# Altium footprint library CPAV.PcbLib: 150 footprints (part 9 of 10)
Each footprint in its own frame and in the unit in brackets; x right, y up, seen from the top. Pads: shape width x height; smd on the part's side, far side on the other; paste and mask are expansions set on the pad; w line width, h text height; cw(c..) or ccw(c..) is an arc to the next point about the centre after c.
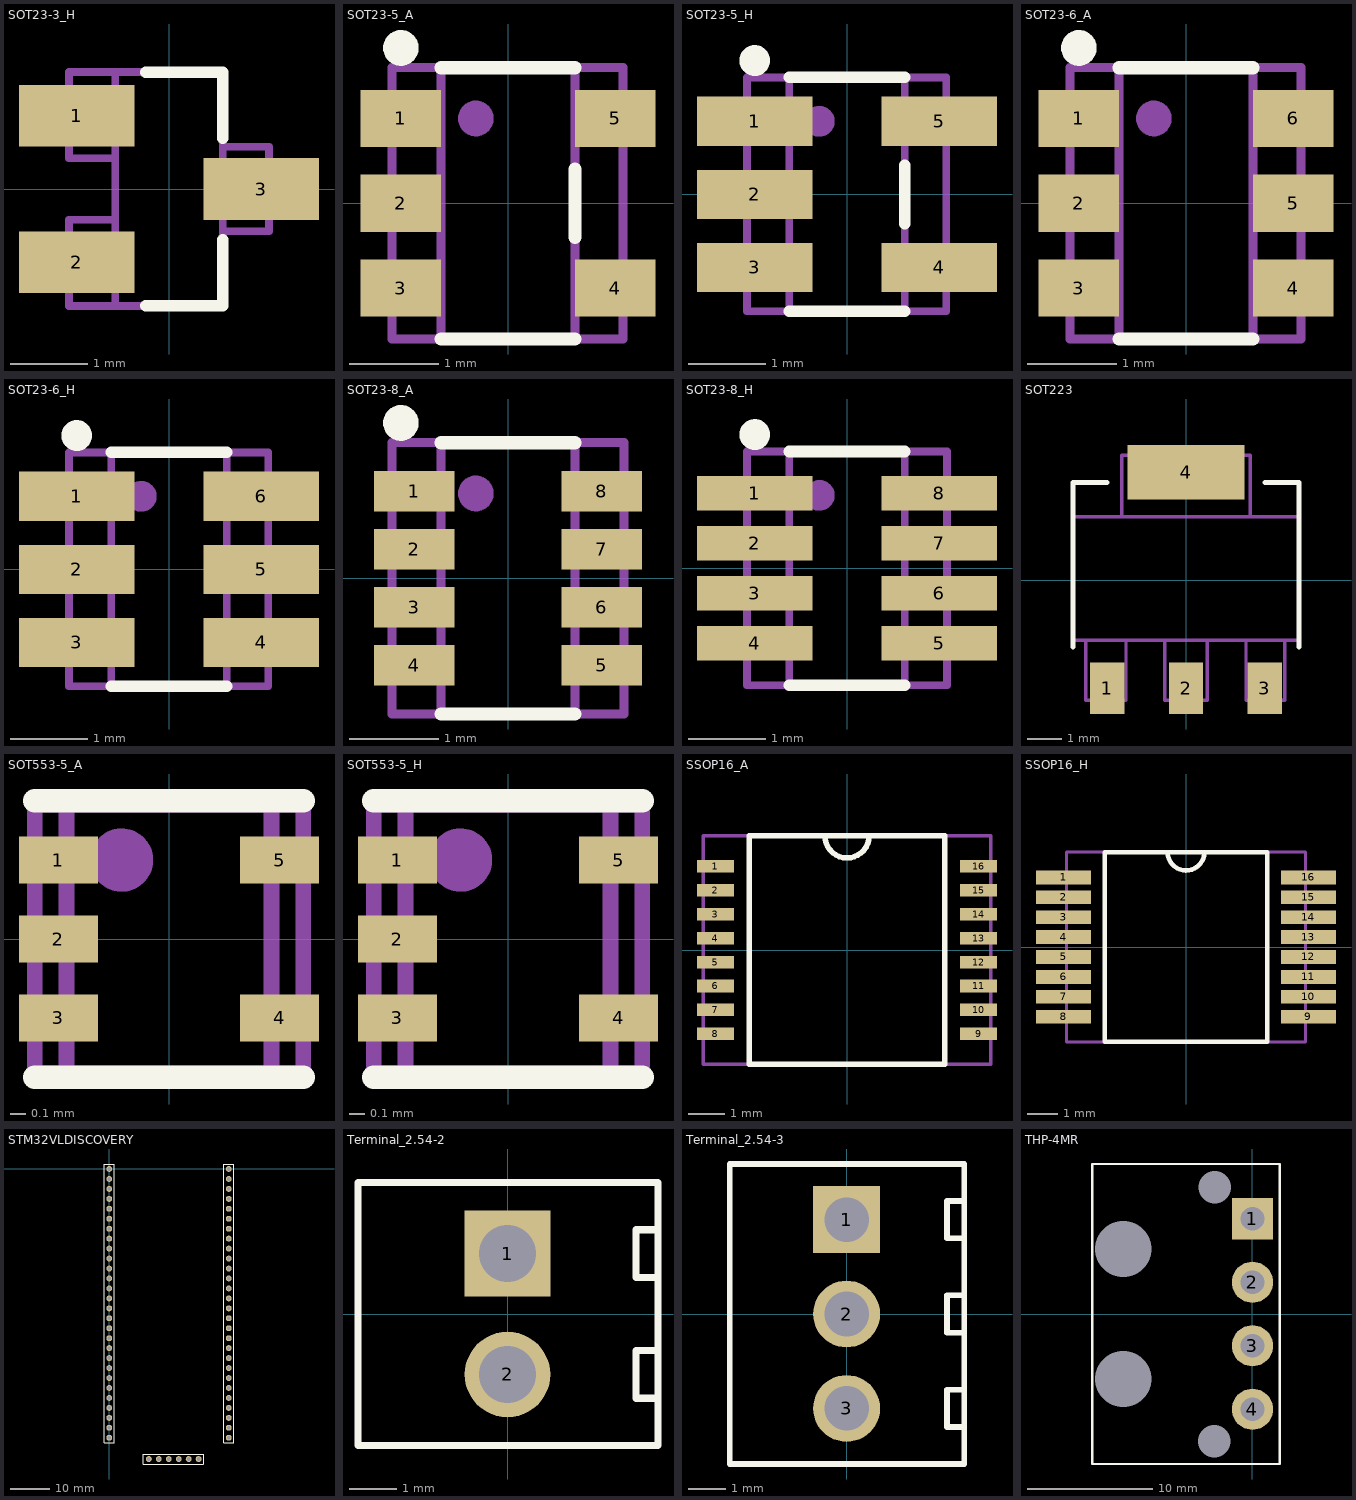
[diagram p8: the footprints below, top view; thin cyan lines are the x and y axes]

## SOT23-3_H [mm]
height 1.12
pads (3):
  rect 1.5x0.8 smd: 1(-1.2,0.95) 2(-1.2,-0.95) 3(1.2,0)
Top Overlay:
  lines w0.15: -0.3,-1.52 0.7,-1.52 0.7,-0.66 ; -0.3,1.52 0.7,1.52 0.7,0.66
Mechanical 7:
  lines w0.1: -0.7,-1.52 -0.7,1.52 ; -0.7,-0.4 -1.3,-0.4 -1.3,-1.52 0.7,-1.52 0.7,1.52 -1.3,1.52 -1.3,0.4 -0.7,0.4 ; 0.7,-0.55 1.3,-0.55 1.3,0.55 0.7,0.55
Mechanical 10:
  text ".Comment" at -0.74,-2.17 h0.6
  text ".Designator" at -0.71,1.79 h0.8
3D body: height 0.5, standoff 0, extent 0.7,-0.55 1.3,0.55
3D body: height 0.5, standoff 0, extent -1.3,-1.52 -0.7,-0.4
3D body: height 0.5, standoff 0, extent -1.3,0.4 -0.7,1.52
3D body: height 1.12, standoff 0, extent -0.7,-1.52 0.7,1.52

## SOT23-5_A [mm]
height 1.12
pads (5):
  rect 0.9x0.64 smd: 1(-1.2,0.95) 2(-1.2,0) 3(-1.2,-0.95) 4(1.2,-0.95) 5(1.2,0.95)
Top Overlay:
  circle w0.2: c-1.2,1.74 r0.1
  lines w0.15: -0.75,-1.52 0.75,-1.52 ; -0.75,1.52 0.75,1.52 ; 0.75,-0.38 0.75,0.38
Mechanical 7:
  circle w0.2: c-0.36,0.95 r0.1
  lines w0.1: -0.75,-1.52 -0.75,1.52 ; 0.75,-1.52 0.75,1.52 ; -1.3,-1.52 -1.3,1.52 1.29,1.52 1.29,-1.52 -1.3,-1.52
Mechanical 10:
  text ".Designator" at -0.73,1.79 h0.8
  text ".Comment" at -0.79,-2.09 h0.6
3D body: height 0.5, standoff 0, extent -1.3,-1.52 -0.75,1.52
3D body: height 0.5, standoff 0, extent 0.75,-1.52 1.29,1.52
3D body: height 1.12, standoff 0, extent -0.75,-1.52 0.75,1.52

## SOT23-5_H [mm]
height 1.12
pads (5):
  rect 1.5x0.64 smd: 1(-1.2,0.95) 2(-1.2,0) 3(-1.2,-0.95) 4(1.2,-0.95) 5(1.2,0.95)
Top Overlay:
  circle w0.2: c-1.2,1.74 r0.1
  lines w0.15: -0.75,-1.52 0.75,-1.52 ; -0.75,1.52 0.75,1.52 ; 0.75,-0.38 0.75,0.38
Mechanical 7:
  circle w0.2: c-0.36,0.95 r0.1
  lines w0.1: -0.75,-1.52 -0.75,1.52 ; 0.75,-1.52 0.75,1.52 ; -1.3,-1.52 1.29,-1.52 1.29,1.52 -1.3,1.52 -1.3,-1.52
Mechanical 10:
  text ".Designator" at -0.73,1.79 h0.8
  text ".Comment" at -0.95,-2.13 h0.6
3D body: height 1.12, standoff 0, extent -0.75,-1.52 0.75,1.52
3D body: height 0.5, standoff 0, extent 0.75,-1.52 1.29,1.52
3D body: height 0.5, standoff 0, extent -1.3,-1.52 -0.75,1.52

## SOT23-6_A [mm]
height 1.12
pads (6):
  rect 0.9x0.64 smd: 1(-1.2,0.95) 2(-1.2,0) 3(-1.2,-0.95) 4(1.2,-0.95) 5(1.2,0) 6(1.2,0.95)
Top Overlay:
  circle w0.2: c-1.2,1.74 r0.1
  lines w0.15: -0.75,-1.52 0.75,-1.52 ; -0.75,1.52 0.75,1.52
Mechanical 7:
  circle w0.2: c-0.36,0.95 r0.1
  lines w0.1: -0.75,-1.52 -0.75,1.52 ; 0.75,-1.52 0.75,1.52 ; -1.3,-1.52 -1.3,1.52 1.29,1.52 1.29,-1.52 -1.3,-1.52
Mechanical 10:
  text ".Comment" at -0.93,-2.11 h0.6
  text ".Designator" at -0.73,1.79 h0.8
3D body: height 0.5, standoff 0, extent -1.3,-1.52 -0.75,1.52
3D body: height 0.5, standoff 0, extent 0.75,-1.52 1.29,1.52
3D body: height 1.12, standoff 0, extent -0.75,-1.52 0.75,1.52

## SOT23-6_H [mm]
height 1.12
pads (6):
  rect 1.5x0.64 smd: 1(-1.2,0.95) 2(-1.2,0) 3(-1.2,-0.95) 4(1.2,-0.95) 5(1.2,0) 6(1.2,0.95)
Top Overlay:
  circle w0.2: c-1.2,1.74 r0.1
  lines w0.15: -0.75,-1.52 0.75,-1.52 ; -0.75,1.52 0.75,1.52
Mechanical 7:
  circle w0.2: c-0.36,0.95 r0.1
  lines w0.1: -0.75,-1.52 -0.75,1.52 ; 0.75,-1.52 0.75,1.52 ; -1.3,-1.52 -1.3,1.52 1.29,1.52 1.29,-1.52 -1.3,-1.52
Mechanical 10:
  text ".Designator" at -0.73,1.79 h0.8
  text ".Comment" at -0.84,-2.08 h0.6
3D body: height 0.5, standoff 0, extent -1.3,-1.52 -0.75,1.52
3D body: height 0.5, standoff 0, extent 0.75,-1.52 1.29,1.52
3D body: height 1.12, standoff 0, extent -0.75,-1.52 0.75,1.52

## SOT23-8_A [mm]
height 1.45
pads (8):
  rect 0.9x0.45 smd: 1(-1.05,0.975) 2(-1.05,0.325) 3(-1.05,-0.325) 4(-1.05,-0.975) 5(1.05,-0.975) 6(1.05,-0.325) 7(1.05,0.325) 8(1.05,0.975)
Top Overlay:
  circle w0.2: c-1.2,1.74 r0.1
  lines w0.15: -0.75,-1.52 0.75,-1.52 ; -0.75,1.52 0.75,1.52
Mechanical 7:
  circle w0.2: c-0.36,0.95 r0.1
  lines w0.1: -0.75,-1.52 -0.75,1.52 ; 0.75,-1.52 0.75,1.52 ; -1.3,-1.52 -1.3,1.52 1.3,1.52 1.3,-1.52 -1.3,-1.52
Mechanical 10:
  text ".Comment" at -0.83,-2.11 h0.6
  text ".Designator" at -0.74,1.81 h0.8
3D body: height 1.45, standoff 0, extent -0.75,-1.52 0.75,1.52
3D body: height 0.5, standoff 0, extent 0.75,-1.52 1.29,1.52
3D body: height 0.5, standoff 0, extent -1.3,-1.52 -0.75,1.52

## SOT23-8_H [mm]
height 1.45
pads (8):
  rect 1.5x0.45 smd: 1(-1.2,0.975) 2(-1.2,0.325) 3(-1.2,-0.325) 4(-1.2,-0.975) 5(1.2,-0.975) 6(1.2,-0.325) 7(1.2,0.325) 8(1.2,0.975)
Top Overlay:
  circle w0.2: c-1.2,1.74 r0.1
  lines w0.15: -0.75,-1.52 0.75,-1.52 ; -0.75,1.52 0.75,1.52
Mechanical 7:
  circle w0.2: c-0.36,0.95 r0.1
  lines w0.1: -0.75,-1.52 -0.75,1.52 ; 0.75,-1.52 0.75,1.52 ; -1.3,-1.52 1.3,-1.52 1.3,1.52 -1.3,1.52 -1.3,-1.52
Mechanical 10:
  text ".Comment" at -0.84,-2.2 h0.6
  text ".Designator" at -0.74,1.81 h0.8
3D body: height 0.5, standoff 0, extent -1.3,-1.52 -0.75,1.52
3D body: height 0.5, standoff 0, extent 0.75,-1.52 1.29,1.52
3D body: height 1.45, standoff 0, extent -0.75,-1.52 0.75,1.52

## SOT223 [mm]
pads (4):
  rect 1x1.5 smd: 1(-2.3,-3.15) 2(0,-3.15) 3(2.3,-3.15)
  rect 3.4x1.6 smd: 4(0,3.15)
Top Overlay:
  lines w0.15: -3.3,-1.95 -3.3,2.85 -2.3,2.85 ; 2.3,2.85 3.3,2.85 3.3,-1.95
Mechanical 7:
  lines w0.1: -2.9,-1.75 -2.925,-1.775 -2.925,-3.5 -1.75,-3.5 -1.75,-1.75 ; -1.875,1.875 -1.875,3.65 1.875,3.65 1.875,1.85 ; -0.625,-1.75 -0.625,-3.5 0.625,-3.5 0.625,-1.75 ; 1.75,-1.75 1.75,-3.5 2.875,-3.5 2.875,-1.75 ; -3.3,-1.75 3.3,-1.75 3.3,1.85 -3.3,1.85 -3.3,-1.75
3D body: height 1.7, standoff 0, extent -3.3,-1.75 3.3,1.85
3D body: height 0.5, standoff 0.1, extent -1.875,1.825 1.875,3.65
3D body: height 0.5, standoff 0.1, extent -2.95,-3.5 -1.75,-1.75
3D body: height 0.5, standoff 0.1, extent -0.625,-3.5 0.625,-1.75
3D body: height 0.5, standoff 0.1, extent 1.75,-3.5 2.875,-1.75

## SOT553-5_A [mm]
height 0.6
pads (5):
  rect 0.5x0.3 smd: 1(-0.7,0.5) 2(-0.7,0) 3(-0.7,-0.5) 4(0.7,-0.5) 5(0.7,0.5)
Top Overlay:
  lines w0.15: -0.85,-0.875 0.85,-0.875 ; -0.85,0.875 0.85,0.875
Mechanical 7:
  circle w0.2: c-0.3,0.5 r0.1
  lines w0.1: -0.65,-0.85 -0.65,0.85 ; 0.65,-0.85 0.65,0.85 ; -0.85,-0.85 -0.85,0.85 0.85,0.85 0.85,-0.85 -0.85,-0.85
Mechanical 10:
  text ".Comment" at -0.825,-1.45 h0.6
  text ".Designator" at -0.725,1.175 h0.8
3D body: height 0.2, standoff 0, extent -0.85,-0.85 -0.65,0.85
3D body: height 0.2, standoff 0, extent 0.65,-0.85 0.85,0.85
3D body: height 0.6, standoff 0, extent -0.65,-0.85 0.65,0.85

## SOT553-5_H [mm]
height 0.6
pads (5):
  rect 0.5x0.3 smd: 1(-0.7,0.5) 2(-0.7,0) 3(-0.7,-0.5) 4(0.7,-0.5) 5(0.7,0.5)
Top Overlay:
  lines w0.15: -0.85,-0.875 0.85,-0.875 ; -0.85,0.875 0.85,0.875
Mechanical 7:
  circle w0.2: c-0.3,0.5 r0.1
  lines w0.1: -0.65,-0.85 -0.65,0.85 ; 0.65,-0.85 0.65,0.85 ; -0.85,-0.85 -0.85,0.85 0.85,0.85 0.85,-0.85 -0.85,-0.85
Mechanical 10:
  text ".Designator" at -0.725,1.175 h0.8
  text ".Comment" at -0.825,-1.45 h0.6
3D body: height 0.6, standoff 0, extent -0.65,-0.85 0.65,0.85
3D body: height 0.2, standoff 0, extent 0.65,-0.85 0.85,0.85
3D body: height 0.2, standoff 0, extent -0.85,-0.85 -0.65,0.85

## SSOP16_A [mm]
height 1.99
pads (16):
  rect 1x0.34 smd: 1(-3.57,2.275) 2(-3.57,1.625) 3(-3.57,0.975) 4(-3.57,0.325) 5(-3.57,-0.325) 6(-3.57,-0.975) 7(-3.57,-1.625) 8(-3.57,-2.275) 9(3.57,-2.275) 10(3.57,-1.625) 11(3.57,-0.975) 12(3.57,-0.325) 13(3.57,0.325) 14(3.57,0.975) 15(3.57,1.625) 16(3.57,2.275)
Top Overlay:
  lines w0.15: -0.6,3.1 ccw(c0,3.1) 0.6,3.09 ; -2.65,-3.1 -2.65,3.1 2.65,3.1 2.65,-3.1 -2.65,-3.1
Mechanical 7:
  lines w0.1: -2.65,-3.1 -2.65,3.1 ; -0.6,3.1 ccw(c0,3.1) 0.6,3.09 ; 2.65,-3.1 2.65,3.1 ; -3.9,-3.1 3.9,-3.1 3.9,3.1 -3.9,3.1 -3.9,-3.1
Mechanical 10:
  text ".Designator" at -1.23,3.46 h0.8
  text ".Comment" at -1.02,-3.71 h0.6
3D body: height 1.99, standoff 0, extent -2.65,-3.1 2.65,3.1
3D body: height 0.75, standoff 0, extent -3.9,-3.1 -2.65,3.1
3D body: height 0.75, standoff 0, extent 2.65,-3.1 3.9,3.1

## SSOP16_H [mm]
height 1.99
pads (16):
  rect 1.8x0.45 smd: 1(-4,2.275) 2(-4,1.625) 3(-4,0.975) 4(-4,0.325) 5(-4,-0.325) 6(-4,-0.975) 7(-4,-1.625) 8(-4,-2.275) 9(4,-2.275) 10(4,-1.625) 11(4,-0.975) 12(4,-0.325) 13(4,0.325) 14(4,0.975) 15(4,1.625) 16(4,2.275)
Top Overlay:
  lines w0.15: -0.6,3.1 ccw(c0,3.1) 0.6,3.09 ; -2.65,-3.1 -2.65,3.1 2.65,3.1 2.65,-3.1 -2.65,-3.1
Mechanical 7:
  lines w0.1: -2.65,-3.1 -2.65,3.1 ; -0.6,3.1 ccw(c0,3.1) 0.6,3.09 ; 2.65,-3.1 2.65,3.1 ; -3.9,-3.1 -3.9,3.1 3.9,3.1 3.9,-3.1 -3.9,-3.1
Mechanical 10:
  text ".Designator" at -1.23,3.46 h0.8
  text ".Comment" at -0.67,-3.72 h0.6
3D body: height 1.99, standoff 0, extent -2.65,-3.1 2.65,3.1
3D body: height 0.75, standoff 0, extent -3.9,-3.1 -2.65,3.1
3D body: height 0.75, standoff 0, extent 2.65,-3.1 3.9,3.1

## STM32VLDISCOVERY [mm]
pads (62):
  round 1.5 hole 0.95: 1(0,0) 2(0,-2.54) 3(0,-5.08) 4(0,-7.62) 5(0,-10.16) 6(0,-12.7) 7(0,-15.24) 8(0,-17.78) 9(0,-20.32) 10(0,-22.86) 11(0,-25.4) 12(0,-27.94) 13(0,-30.48) 14(0,-33.02) 15(0,-35.56) 16(0,-38.1) 17(0,-40.64) 18(0,-43.18) 19(0,-45.72) 20(0,-48.26) 21(0,-50.8) 22(0,-53.34) 23(0,-55.88) 24(0,-58.42) 25(0,-60.96) 26(0,-63.5) 27(0,-66.04) 28(0,-68.58) 29(30.48,0) 30(30.48,-2.54) 31(30.48,-5.08) 32(30.48,-7.62) 33(30.48,-10.16) 34(30.48,-12.7) 35(30.48,-15.24) 36(30.48,-17.78) 37(30.48,-20.32) 38(30.48,-22.86) 39(30.48,-25.4) 40(30.48,-27.94) 41(30.48,-30.48) 42(30.48,-33.02) 43(30.48,-35.56) 44(30.48,-38.1) 45(30.48,-40.64) 46(30.48,-43.18) 47(30.48,-45.72) 48(30.48,-48.26) 49(30.48,-50.8) 50(30.48,-53.34) 51(30.48,-55.88) 52(30.48,-58.42) 53(30.48,-60.96) 54(30.48,-63.5) 55(30.48,-66.04) 56(30.48,-68.58) 57(10.1,-74.01) 58(12.64,-74.01) 59(15.18,-74.01) 60(17.72,-74.01) 61(20.26,-74.01) 62(22.8,-74.01)
Top Overlay:
  lines w0.254: 24,-75.28 8.73,-75.28 8.73,-72.74 24,-72.74 ; 24.07,-75.28 24.07,-72.74 ; -1.27,-69.85 1.27,-69.85 1.27,1.27 -1.27,1.27 -1.27,-69.85 ; 29.21,-69.85 29.21,1.27 31.75,1.27 31.75,-69.85 29.21,-69.85

## Terminal_2.54-2 [mm]
height 8.5
pads (2):
  rect 1.8x1.8 hole 1.2: 1(0,1.27)
  round 1.8 hole 1.2: 2(0,-1.27)
Top Overlay:
  lines w0.15: 3.16,-1.77 2.7,-1.77 2.7,-0.77 3.16,-0.77 ; 3.16,0.77 2.7,0.77 2.7,1.77 3.16,1.77 ; -3.14,-2.765 3.16,-2.765 3.16,2.765 -3.14,2.765 -3.14,-2.765
Mechanical 7:
  lines w0.1: 3.16,-1.77 2.7,-1.77 2.7,-0.77 3.16,-0.77 ; 3.16,0.77 2.7,0.77 2.7,1.77 3.16,1.77 ; -3.14,-2.765 -3.14,2.765 3.16,2.765 3.16,-2.765 -3.14,-2.765
Mechanical 10:
  text ".Designator" at -1.175,3.975 h0.8
  text ".Comment" at -1.15,3.275 h0.6
3D body: height 8.5, standoff 0, extent -3.14,-2.765 3.16,2.765

## Terminal_2.54-3 [mm]
height 8.5
pads (3):
  rect 1.8x1.8 hole 1.2: 1(0,2.54)
  round 1.8 hole 1.2: 2(0,0) 3(0,-2.54)
Top Overlay:
  lines w0.15: 3.16,-3.04 2.7,-3.04 2.7,-2.04 3.16,-2.04 ; 3.16,-0.5 2.7,-0.5 2.7,0.5 3.16,0.5 ; 3.16,2.04 2.7,2.04 2.7,3.04 3.16,3.04 ; -3.14,-4.035 -3.14,4.035 3.16,4.035 3.16,-4.035 -3.14,-4.035
Mechanical 7:
  lines w0.1: 3.16,-3.04 2.7,-3.04 2.7,-2.04 3.16,-2.04 ; 3.16,-0.5 2.7,-0.5 2.7,0.5 3.16,0.5 ; 3.16,2.04 2.7,2.04 2.7,3.04 3.16,3.04 ; -3.14,-4.035 3.16,-4.035 3.16,4.035 -3.14,4.035 -3.14,-4.035
Mechanical 10:
  text ".Comment" at -1.15,4.545 h0.6
  text ".Designator" at -1.175,5.245 h0.8
3D body: height 8.5, standoff 0, extent -3.14,-4.035 3.16,4.035

## THP-4MR [mm]
pads (8):
  rect 3.3x3.3 hole 1.9: 1(0,7.62)
  round 3.3 hole 1.9: 2(0,2.54) 3(0,-2.54) 4(0,-7.62)
  round 0 hole 4.5 unplated: 5(-10.34,-5.2) 5(-10.34,5.2)
  round 0 hole 2.6 unplated: 5(-3.04,-10.175) 5(-3.015,10.15)
Top Overlay:
  lines w0.2: -12.825,-12 -12.825,12 2.2,12 2.2,-12 -12.825,-12
Mechanical 7:
  lines w0.1: -12.825,-12 2.2,-12 2.2,12 -12.825,12 -12.825,-12
Mechanical 10:
  text ".Designator" at -10,14 h0.8
  text ".Comment" at -10,-14 h0.6
3D body "User Library-THP-4MR_THP-4MR Part.STEP": height 8.3, standoff -4.1, extent -12.425,-11.65 0.675,11.65